# Altium schematic symbol library TC1-1-13M.SchLib: 1 symbol
Pins are listed as number, name and electrical type; pins without a type are passive.

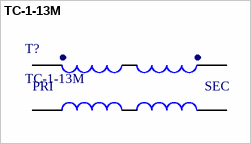
[diagram p0: symbol TC-1-13M]

## TC-1-13M
designator T?
RF balun
footprint TC1-1-13M (RF balun)
pins: 1 SD, 3 S, 4 P, 6 PD
text: PRI; SEC